# Altium schematic symbol library CD74HC4067_DB.SchLib: 2 symbols
Pins are listed as number, name and electrical type; pins without a type are passive.

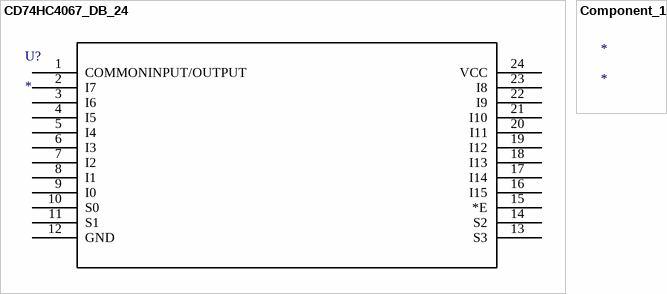
[diagram p0: symbols CD74HC4067_DB_24 to Component_1]

## CD74HC4067_DB_24
designator U?
Imported; Manufacturer: Texas Instruments; GENERIC_PART_NUMBER: CD74HC4067; INDUSTRY_STD_PKG_TYPE: SSOP; FAMILY_NAME: ANALOG SWITCH/MULTIPLEXER(less than or equal to 5V); PIN_COUNT: 24; PACKAGE_DESIGNATOR: DB; Datasheet URL: http://www.ti.com/lit/gpn/CD74HC4067; RefDes: RefDes; Type: DEV; Value: Value
footprint DB24
pins: 1 COMMONINPUT/OUTPUT, 2 I7, 3 I6, 4 I5, 5 I4, 6 I3, 7 I2, 8 I1, 9 I0, 10 S0, 11 S1, 12 GND, 13 S3, 14 S2, 15 *E, 16 I15, 17 I14, 18 I13, 19 I12, 20 I11, 21 I10, 22 I9, 23 I8, 24 VCC

## Component_1
designator *